# EAGLE library part SN65HVD23X (library h8-ic)
SN65HVD23x Features: Operates with a single 3.3 V Supply Compatible With ISO 11898-2 Standard Low Power Replacement for the PCA82C250 Footprint Bus Pin ESD Protection Exceeds ±16 kV HBM High Input Impedance Allows for Up to 120 Nodes on a Bus Adjustable Driver Transition Times for Improved Emissions Performance SN65HVD230 and SN65HVD231 SN65HVD230: Low Current Standby Mode 370 μA Typical SN65HVD231: Ultra Low Current Sleep Mode 40 nA Typical Designed for Data Rates up to 1 Mbps Thermal Shutdown Protection Open Circuit Fail-Safe Design Glitch Free Power Up and Power Down Protection for Hot Plugging Applications Datasheet: http://www.ti.com/lit/ds/symlink/sn65hvd230.pdf Created by Hans Achterbahn ("https://github.com/HansAchterbahn)
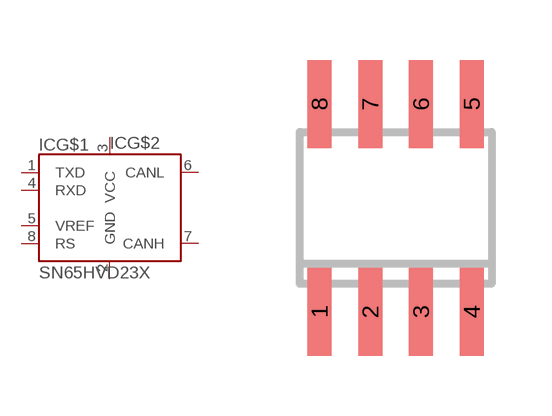
[diagram p3: symbol with the pads of SO-08; footprint SO-08]

Designator prefix IC; gates G$1=CAN-TRANCEIVER G$2=SUPPLY

## SN65HVD23X  [SO-08]
1  G$1:TXD
2  G$2:GND
3  G$2:VCC
4  G$1:RXD
5  G$1:VREF
6  G$1:CANL
7  G$1:CANH
8  G$1:RS

## Footprint SO-08 (pad centres in mm)
Small Outline Integrated Circuit
smd 0.6 x 2.2: 1 -1.905,-2.6; 2 -0.635,-2.6; 3 0.635,-2.6; 4 1.905,-2.6; 5 1.905,2.6; 6 0.635,2.6; 7 -0.635,2.6; 8 -1.905,2.6